# Altium footprint library Microchip Interface.PcbLib: 55 footprints (part 1 of 4)
Each footprint in its own frame and in the unit in brackets; x right, y up, seen from the top. Pads: shape width x height; smd on the part's side, far side on the other; paste and mask are expansions set on the pad; w line width, h text height; cw(c..) or ccw(c..) is an arc to the next point about the centre after c.
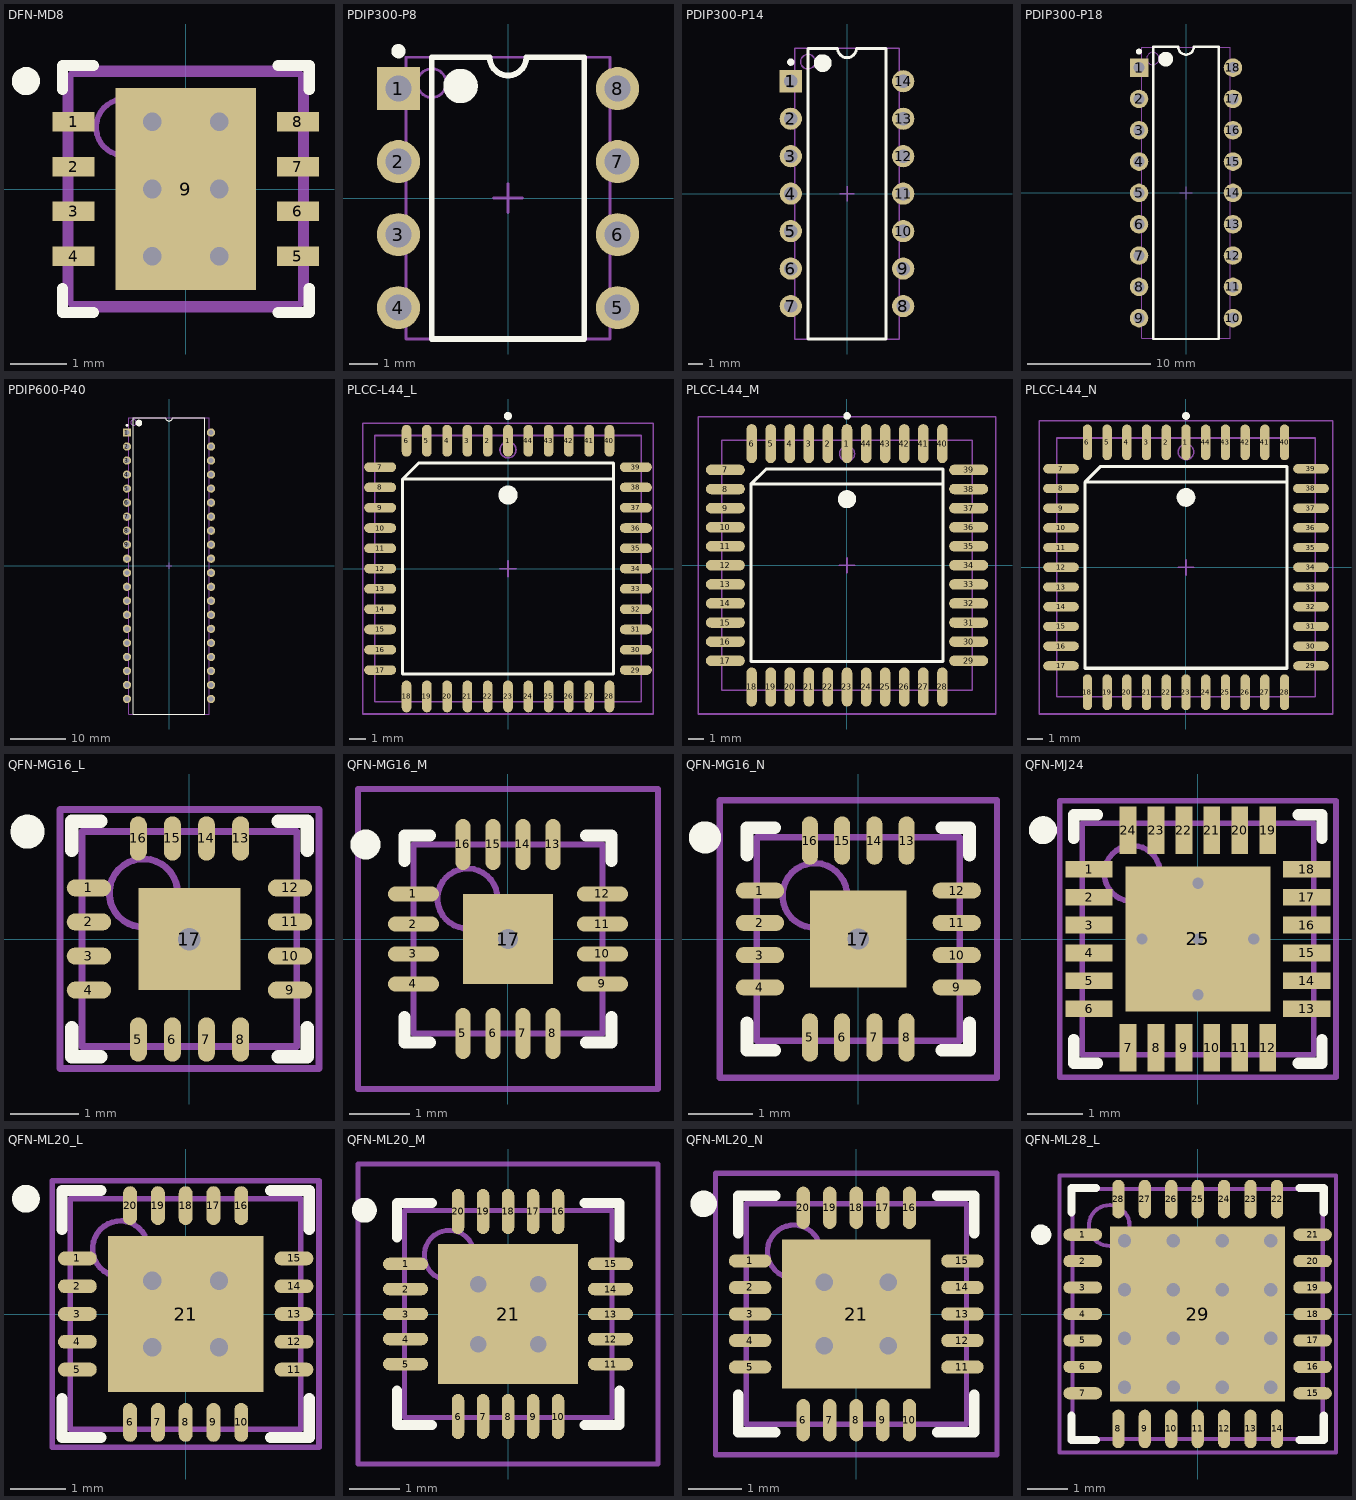
[diagram p0: the footprints below, top view; thin cyan lines are the x and y axes]

## DFN-MD8 [mm] "SON, 8-Leads, Body 4x4mm, Pitch 0.8mm, Microchip Recommended"
height 1
pads (9):
  rect 0.75x0.35 smd: 1(-2,1.2) 2(-2,0.4) 3(-2,-0.4) 4(-2,-1.2) 5(2,-1.2) 6(2,-0.4) 7(2,0.4) 8(2,1.2)
  rect 2.5x3.6 smd: 9(0,0)
via -0.6,1.2 diameter 0.66 hole 0.33
via 0.6,1.2 diameter 0.66 hole 0.33
via -0.6,0 diameter 0.66 hole 0.33
via 0.6,0 diameter 0.66 hole 0.33
via -0.6,-1.2 diameter 0.66 hole 0.33
via 0.6,-1.2 diameter 0.66 hole 0.33
Top Overlay:
  circle w0.25: c-2.85,1.925 r0.125
  lines w0.2: -2.2,-1.775 -2.2,-2.2 -1.65,-2.2 ; -2.2,1.775 -2.2,2.2 -1.65,2.2 ; 1.65,-2.2 2.2,-2.2 2.2,-1.775 ; 1.65,2.2 2.2,2.2 2.2,1.775
Mechanical 13:
  circle w0.1: c-1.1,1.1 r0.5
  lines w0.1: -2.05,-2.05 -2.05,2.05 2.05,2.05 2.05,-2.05 -2.05,-2.05
Mechanical 15:
  lines w0.1: -0.5,0 0.5,0 ; 0,-0.5 0,0.5 ; -2.15,-2.15 -2.15,2.15 2.15,2.15 2.15,-2.15 -2.15,-2.15
3D body: height 1, standoff 0, extent -2.05,-2.05 2.05,2.05

## PDIP300-P8 [mm] "DIP, 8-Leads, Row Spacing 7.62mm, Pitch 2.54mm, Body 9.5x6.6mm"
height 5.34
pads (8):
  rect 1.5x1.5 hole 0.9: 1(-3.81,3.81)
  round 1.5 hole 0.9: 2(-3.81,1.27) 3(-3.81,-1.27) 4(-3.81,-3.81) 5(3.81,-3.81) 6(3.81,-1.27) 7(3.81,1.27) 8(3.81,3.81)
Top Overlay:
  circle w0.25: c-3.81,5.11 r0.125
  circle w0.6: c-1.65,3.9 r0.3
  lines w0.2: -2.65,-4.9 -2.65,4.9 -0.635,4.9 ccw(c0,4.9) 0.635,4.9 2.65,4.9 2.65,-4.9 -2.65,-4.9
Mechanical 13:
  circle w0.1: c-2.65,4 r0.5
  lines w0.1: -3.55,-4.9 -3.55,4.9 3.55,4.9 3.55,-4.9 -3.55,-4.9
Mechanical 15:
  lines w0.1: -0.5,0 0.5,0 ; 0,-0.5 0,0.5
3D body: height 5.34, standoff 0, extent -3.55,-4.9 3.55,4.9

## PDIP300-P14 [mm] "DIP, 14-Leads, Row Spacing 7.62mm, Pitch 2.54mm, Body 19.2x6.6mm"
height 5.34
pads (14):
  rect 1.5x1.5 hole 0.9: 1(-3.81,7.62)
  round 1.5 hole 0.9: 2(-3.81,5.08) 3(-3.81,2.54) 4(-3.81,0) 5(-3.81,-2.54) 6(-3.81,-5.08) 7(-3.81,-7.62) 8(3.81,-7.62) 9(3.81,-5.08) 10(3.81,-2.54) 11(3.81,0) 12(3.81,2.54) 13(3.81,5.08) 14(3.81,7.62)
Top Overlay:
  circle w0.6: c-1.65,8.85 r0.3
  circle w0.25: c-3.81,8.92 r0.125
  lines w0.2: -2.65,-9.85 2.65,-9.85 2.65,9.85 0.635,9.85 cw(c0,9.85) -0.635,9.85 -2.65,9.85 -2.65,-9.85
Mechanical 13:
  circle w0.1: c-2.65,8.95 r0.5
  lines w0.1: -3.55,-9.85 3.55,-9.85 3.55,9.85 -3.55,9.85 -3.55,-9.85
Mechanical 15:
  lines w0.1: -0.5,0 0.5,0 ; 0,-0.5 0,0.5
3D body: height 5.34, standoff 0, extent -3.55,-9.85 3.55,9.85

## PDIP300-P18 [mm] "DIP, 18-Leads, Row Spacing 7.62mm, Pitch 2.54mm, Body 22.9x6.6mm"
height 5.34
pads (18):
  rect 1.5x1.5 hole 0.9: 1(-3.81,10.16)
  round 1.5 hole 0.9: 2(-3.81,7.62) 3(-3.81,5.08) 4(-3.81,2.54) 5(-3.81,0) 6(-3.81,-2.54) 7(-3.81,-5.08) 8(-3.81,-7.62) 9(-3.81,-10.16) 10(3.81,-10.16) 11(3.81,-7.62) 12(3.81,-5.08) 13(3.81,-2.54) 14(3.81,0) 15(3.81,2.54) 16(3.81,5.08) 17(3.81,7.62) 18(3.81,10.16)
Top Overlay:
  circle w0.25: c-3.81,11.46 r0.125
  circle w0.6: c-1.65,10.85 r0.3
  lines w0.2: -2.65,-11.85 -2.65,11.85 -0.635,11.85 ccw(c0,11.85) 0.635,11.85 2.65,11.85 2.65,-11.85 -2.65,-11.85
Mechanical 13:
  circle w0.1: c-2.7,10.9 r0.5
  lines w0.1: -3.6,-11.8 -3.6,11.8 3.6,11.8 3.6,-11.8 -3.6,-11.8
Mechanical 15:
  lines w0.1: -0.5,0 0.5,0 ; 0,-0.5 0,0.5
3D body: height 5.34, standoff 0, extent -3.6,-11.8 3.6,11.8

## PDIP600-P40 [mm] "DIP, 40-Leads, Row Spacing 15.24mm, Pitch 2.54mm, Body 51.8x13.5mm"
height 6.35
pads (40):
  rect 1.5x1.5 hole 0.9: 1(-7.62,24.13)
  round 1.5 hole 0.9: 2(-7.62,21.59) 3(-7.62,19.05) 4(-7.62,16.51) 5(-7.62,13.97) 6(-7.62,11.43) 7(-7.62,8.89) 8(-7.62,6.35) 9(-7.62,3.81) 10(-7.62,1.27) 11(-7.62,-1.27) 12(-7.62,-3.81) 13(-7.62,-6.35) 14(-7.62,-8.89) 15(-7.62,-11.43) 16(-7.62,-13.97) 17(-7.62,-16.51) 18(-7.62,-19.05) 19(-7.62,-21.59) 20(-7.62,-24.13) 21(7.62,-24.13) 22(7.62,-21.59) 23(7.62,-19.05) 24(7.62,-16.51) 25(7.62,-13.97) 26(7.62,-11.43) 27(7.62,-8.89) 28(7.62,-6.35) 29(7.62,-3.81) 30(7.62,-1.27) 31(7.62,1.27) 32(7.62,3.81) 33(7.62,6.35) 34(7.62,8.89) 35(7.62,11.43) 36(7.62,13.97) 37(7.62,16.51) 38(7.62,19.05) 39(7.62,21.59) 40(7.62,24.13)
Top Overlay:
  circle w0.25: c-7.62,25.43 r0.125
  circle w0.6: c-5.45,25.85 r0.3
  lines w0.2: -6.45,-26.85 -6.45,26.85 -0.635,26.85 ccw(c0,26.85) 0.635,26.85 6.45,26.85 6.45,-26.85 -6.45,-26.85
Mechanical 13:
  circle w0.1: c-6.4,25.95 r0.5
  lines w0.1: -7.3,-26.85 -7.3,26.85 7.3,26.85 7.3,-26.85 -7.3,-26.85
Mechanical 15:
  lines w0.1: -0.5,0 0.5,0 ; 0,-0.5 0,0.5
3D body: height 6.35, standoff 0, extent -7.3,-26.85 7.3,26.85

## PLCC-L44_L [mm] "Leaded Chip Carrier, 44-Leads, Body 16.6x16.6mm, Pitch 1.27mm, IPC High Density"
height 4.58
pads (44):
  oval 0.6x2 smd: 1(0,8) 2(-1.27,8) 3(-2.54,8) 4(-3.81,8) 5(-5.08,8) 6(-6.35,8) 18(-6.35,-8) 19(-5.08,-8) 20(-3.81,-8) 21(-2.54,-8) 22(-1.27,-8) 23(0,-8) 24(1.27,-8) 25(2.54,-8) 26(3.81,-8) 27(5.08,-8) 28(6.35,-8) 40(6.35,8) 41(5.08,8) 42(3.81,8) 43(2.54,8) 44(1.27,8)
  oval 2x0.6 smd: 7(-8,6.35) 8(-8,5.08) 9(-8,3.81) 10(-8,2.54) 11(-8,1.27) 12(-8,0) 13(-8,-1.27) 14(-8,-2.54) 15(-8,-3.81) 16(-8,-5.08) 17(-8,-6.35) 29(8,-6.35) 30(8,-5.08) 31(8,-3.81) 32(8,-2.54) 33(8,-1.27) 34(8,0) 35(8,1.27) 36(8,2.54) 37(8,3.81) 38(8,5.08) 39(8,6.35)
Top Overlay:
  circle w0.6: c0,4.6 r0.3
  circle w0.25: c0,9.55 r0.125
  lines w0.2: 6.6,5.6 -6.6,5.6 ; -6.6,5.6 -6.6,-6.6 6.6,-6.6 6.6,6.6 -5.6,6.6 -6.6,5.6
Mechanical 13:
  circle w0.1: c0,7.43 r0.5
  lines w0.1: -8.33,-8.33 8.33,-8.33 8.33,8.33 -8.33,8.33 -8.33,-8.33
Mechanical 15:
  lines w0.1: -0.5,0 0.5,0 ; 0,-0.5 0,0.5 ; -9.1,-9.1 9.1,-9.1 9.1,9.1 -9.1,9.1 -9.1,-9.1
3D body: height 4.58, standoff 0, extent -8.33,-8.33 8.33,8.33

## PLCC-L44_M [mm] "Leaded Chip Carrier, 44-Leads, Body 16.6x16.6mm, Pitch 1.27mm, IPC Low Density"
height 4.58
pads (44):
  oval 0.7x2.6 smd: 1(0,8.1) 2(-1.27,8.1) 3(-2.54,8.1) 4(-3.81,8.1) 5(-5.08,8.1) 6(-6.35,8.1) 18(-6.35,-8.1) 19(-5.08,-8.1) 20(-3.81,-8.1) 21(-2.54,-8.1) 22(-1.27,-8.1) 23(0,-8.1) 24(1.27,-8.1) 25(2.54,-8.1) 26(3.81,-8.1) 27(5.08,-8.1) 28(6.35,-8.1) 40(6.35,8.1) 41(5.08,8.1) 42(3.81,8.1) 43(2.54,8.1) 44(1.27,8.1)
  oval 2.6x0.7 smd: 7(-8.1,6.35) 8(-8.1,5.08) 9(-8.1,3.81) 10(-8.1,2.54) 11(-8.1,1.27) 12(-8.1,0) 13(-8.1,-1.27) 14(-8.1,-2.54) 15(-8.1,-3.81) 16(-8.1,-5.08) 17(-8.1,-6.35) 29(8.1,-6.35) 30(8.1,-5.08) 31(8.1,-3.81) 32(8.1,-2.54) 33(8.1,-1.27) 34(8.1,0) 35(8.1,1.27) 36(8.1,2.54) 37(8.1,3.81) 38(8.1,5.08) 39(8.1,6.35)
Top Overlay:
  circle w0.6: c0,4.4 r0.3
  circle w0.25: c0,9.95 r0.125
  lines w0.2: 6.4,5.4 -6.4,5.4 ; -6.4,5.4 -6.4,-6.4 6.4,-6.4 6.4,6.4 -5.4,6.4 -6.4,5.4
Mechanical 13:
  circle w0.1: c0,7.43 r0.5
  lines w0.1: -8.33,-8.33 8.33,-8.33 8.33,8.33 -8.33,8.33 -8.33,-8.33
Mechanical 15:
  lines w0.1: -0.5,0 0.5,0 ; 0,-0.5 0,0.5 ; -9.9,-9.9 9.9,-9.9 9.9,9.9 -9.9,9.9 -9.9,-9.9
3D body: height 4.58, standoff 0, extent -8.33,-8.33 8.33,8.33

## PLCC-L44_N [mm] "Leaded Chip Carrier, 44-Leads, Body 16.6x16.6mm, Pitch 1.27mm, IPC Medium Density"
height 4.58
pads (44):
  oval 0.6x2.3 smd: 1(0,8.05) 2(-1.27,8.05) 3(-2.54,8.05) 4(-3.81,8.05) 5(-5.08,8.05) 6(-6.35,8.05) 18(-6.35,-8.05) 19(-5.08,-8.05) 20(-3.81,-8.05) 21(-2.54,-8.05) 22(-1.27,-8.05) 23(0,-8.05) 24(1.27,-8.05) 25(2.54,-8.05) 26(3.81,-8.05) 27(5.08,-8.05) 28(6.35,-8.05) 40(6.35,8.05) 41(5.08,8.05) 42(3.81,8.05) 43(2.54,8.05) 44(1.27,8.05)
  oval 2.3x0.6 smd: 7(-8.05,6.35) 8(-8.05,5.08) 9(-8.05,3.81) 10(-8.05,2.54) 11(-8.05,1.27) 12(-8.05,0) 13(-8.05,-1.27) 14(-8.05,-2.54) 15(-8.05,-3.81) 16(-8.05,-5.08) 17(-8.05,-6.35) 29(8.05,-6.35) 30(8.05,-5.08) 31(8.05,-3.81) 32(8.05,-2.54) 33(8.05,-1.27) 34(8.05,0) 35(8.05,1.27) 36(8.05,2.54) 37(8.05,3.81) 38(8.05,5.08) 39(8.05,6.35)
Top Overlay:
  circle w0.6: c0,4.5 r0.3
  circle w0.25: c0,9.75 r0.125
  lines w0.2: 6.5,5.5 -6.5,5.5 ; -6.5,5.5 -6.5,-6.5 6.5,-6.5 6.5,6.5 -5.5,6.5 -6.5,5.5
Mechanical 13:
  circle w0.1: c0,7.43 r0.5
  lines w0.1: -8.33,-8.33 8.33,-8.33 8.33,8.33 -8.33,8.33 -8.33,-8.33
Mechanical 15:
  lines w0.1: -0.5,0 0.5,0 ; 0,-0.5 0,0.5 ; -9.45,-9.45 9.45,-9.45 9.45,9.45 -9.45,9.45 -9.45,-9.45
3D body: height 4.58, standoff 0, extent -8.33,-8.33 8.33,8.33

## QFN-MG16_L [mm] "QFN, 16-Leads, Body 3x3mm, Pitch 0.5mm, IPC High Density"
height 1
pads (17):
  oval 0.65x0.25 smd: 1(-1.475,0.75) 2(-1.475,0.25) 3(-1.475,-0.25) 4(-1.475,-0.75) 9(1.475,-0.75) 10(1.475,-0.25) 11(1.475,0.25) 12(1.475,0.75)
  oval 0.25x0.65 smd: 5(-0.75,-1.475) 6(-0.25,-1.475) 7(0.25,-1.475) 8(0.75,-1.475) 13(0.75,1.475) 14(0.25,1.475) 15(-0.25,1.475) 16(-0.75,1.475)
  rect 1.5x1.5 smd: 17(0,0)
via 0,0 diameter 0.66 hole 0.33
Top Overlay:
  circle w0.25: c-2.375,1.575 r0.125
  lines w0.2: -1.725,-1.3 -1.725,-1.725 -1.3,-1.725 ; -1.725,1.3 -1.725,1.725 -1.3,1.725 ; 1.3,-1.725 1.725,-1.725 1.725,-1.3 ; 1.3,1.725 1.725,1.725 1.725,1.3
Mechanical 13:
  circle w0.1: c-0.675,0.675 r0.5
  lines w0.1: -1.575,-1.575 -1.575,1.575 1.575,1.575 1.575,-1.575 -1.575,-1.575
Mechanical 15:
  lines w0.1: -0.5,0 0.5,0 ; 0,-0.5 0,0.5 ; -1.9,-1.9 -1.9,1.9 1.9,1.9 1.9,-1.9 -1.9,-1.9
3D body: height 1, standoff 0, extent -1.575,-1.575 1.575,1.575

## QFN-MG16_M [mm] "QFN, 16-Leads, Body 3x3mm, Pitch 0.5mm, IPC Low Density"
height 1
pads (17):
  oval 0.85x0.25 smd: 1(-1.575,0.75) 2(-1.575,0.25) 3(-1.575,-0.25) 4(-1.575,-0.75) 9(1.575,-0.75) 10(1.575,-0.25) 11(1.575,0.25) 12(1.575,0.75)
  oval 0.25x0.85 smd: 5(-0.75,-1.575) 6(-0.25,-1.575) 7(0.25,-1.575) 8(0.75,-1.575) 13(0.75,1.575) 14(0.25,1.575) 15(-0.25,1.575) 16(-0.75,1.575)
  rect 1.5x1.5 smd: 17(0,0)
via 0,0 diameter 0.66 hole 0.33
Top Overlay:
  circle w0.25: c-2.375,1.575 r0.125
  lines w0.2: -1.725,-1.3 -1.725,-1.725 -1.3,-1.725 ; -1.725,1.3 -1.725,1.725 -1.3,1.725 ; 1.3,-1.725 1.725,-1.725 1.725,-1.3 ; 1.3,1.725 1.725,1.725 1.725,1.3
Mechanical 13:
  circle w0.1: c-0.675,0.675 r0.5
  lines w0.1: -1.575,-1.575 -1.575,1.575 1.575,1.575 1.575,-1.575 -1.575,-1.575
Mechanical 15:
  lines w0.1: -0.5,0 0.5,0 ; 0,-0.5 0,0.5 ; -2.5,-2.5 -2.5,2.5 2.5,2.5 2.5,-2.5 -2.5,-2.5
3D body: height 1, standoff 0, extent -1.575,-1.575 1.575,1.575

## QFN-MG16_N [mm] "QFN, 16-Leads, Body 3x3mm, Pitch 0.5mm, IPC Medium Density"
height 1
pads (17):
  oval 0.75x0.25 smd: 1(-1.525,0.75) 2(-1.525,0.25) 3(-1.525,-0.25) 4(-1.525,-0.75) 9(1.525,-0.75) 10(1.525,-0.25) 11(1.525,0.25) 12(1.525,0.75)
  oval 0.25x0.75 smd: 5(-0.75,-1.525) 6(-0.25,-1.525) 7(0.25,-1.525) 8(0.75,-1.525) 13(0.75,1.525) 14(0.25,1.525) 15(-0.25,1.525) 16(-0.75,1.525)
  rect 1.5x1.5 smd: 17(0,0)
via 0,0 diameter 0.66 hole 0.33
Top Overlay:
  circle w0.25: c-2.375,1.575 r0.125
  lines w0.2: -1.725,-1.3 -1.725,-1.725 -1.3,-1.725 ; -1.725,1.3 -1.725,1.725 -1.3,1.725 ; 1.3,-1.725 1.725,-1.725 1.725,-1.3 ; 1.3,1.725 1.725,1.725 1.725,1.3
Mechanical 13:
  circle w0.1: c-0.675,0.675 r0.5
  lines w0.1: -1.575,-1.575 -1.575,1.575 1.575,1.575 1.575,-1.575 -1.575,-1.575
Mechanical 15:
  lines w0.1: -0.5,0 0.5,0 ; 0,-0.5 0,0.5 ; -2.15,-2.15 -2.15,2.15 2.15,2.15 2.15,-2.15 -2.15,-2.15
3D body: height 1, standoff 0, extent -1.575,-1.575 1.575,1.575

## QFN-MJ24 [mm] "QFN, 24-Leads, Body 4x4mm, Pitch 0.5mm, Microchip Recommended"
height 0.9
pads (25):
  rect 0.85x0.3 smd: 1(-1.95,1.25) 2(-1.95,0.75) 3(-1.95,0.25) 4(-1.95,-0.25) 5(-1.95,-0.75) 6(-1.95,-1.25) 13(1.95,-1.25) 14(1.95,-0.75) 15(1.95,-0.25) 16(1.95,0.25) 17(1.95,0.75) 18(1.95,1.25)
  rect 0.3x0.85 smd: 7(-1.25,-1.95) 8(-0.75,-1.95) 9(-0.25,-1.95) 10(0.25,-1.95) 11(0.75,-1.95) 12(1.25,-1.95) 19(1.25,1.95) 20(0.75,1.95) 21(0.25,1.95) 22(-0.25,1.95) 23(-0.75,1.95) 24(-1.25,1.95)
  rect 2.6x2.6 smd paste-1.3: 25(0,0)
via 0,-1 diameter 0.5 hole 0.2
via 0,1 diameter 0.5 hole 0.2
via -1,0 diameter 0.5 hole 0.2
via 1,0 diameter 0.5 hole 0.2
via 0,0 diameter 0.5 hole 0.2
Top Overlay:
  circle w0.25: c-2.775,1.95 r0.125
  lines w0.2: -2.225,-1.8 -2.225,-2.225 -1.8,-2.225 ; -2.225,1.8 -2.225,2.225 -1.8,2.225 ; 1.8,-2.225 2.225,-2.225 2.225,-1.8 ; 1.8,2.225 2.225,2.225 2.225,1.8
Top Paste:
  rectangle: 0.1,0.1 1.2,1.2
  region: -0.1,1.2 -1.2,1.2 -1.2,0.1 -0.1,0.1
  region: -0.1,-0.1 -1.2,-0.1 -1.2,-1.2 -0.1,-1.2
  rectangle: 0.1,-1.2 1.2,-0.1
Mechanical 13:
  circle w0.1: c-1.175,1.175 r0.5
  lines w0.1: -2.075,-2.075 2.075,-2.075 2.075,2.075 -2.075,2.075 -2.075,-2.075
Mechanical 15:
  lines w0.1: -0.5,0 0.5,0 ; 0,-0.5 0,0.5 ; -2.475,-2.475 -2.475,2.475 2.475,2.475 2.475,-2.475 -2.475,-2.475
3D body: height 0.9, standoff 0, extent -2.074,-2.074 2.074,2.074

## QFN-ML20_L [mm] "QFN, 20-Leads, Body 4x4mm, Pitch 0.5mm, IPC High Density"
height 1
pads (21):
  oval 0.7x0.25 smd: 1(-1.95,1) 2(-1.95,0.5) 3(-1.95,0) 4(-1.95,-0.5) 5(-1.95,-1) 11(1.95,-1) 12(1.95,-0.5) 13(1.95,0) 14(1.95,0.5) 15(1.95,1)
  oval 0.25x0.7 smd: 6(-1,-1.95) 7(-0.5,-1.95) 8(0,-1.95) 9(0.5,-1.95) 10(1,-1.95) 16(1,1.95) 17(0.5,1.95) 18(0,1.95) 19(-0.5,1.95) 20(-1,1.95)
  rect 2.8x2.8 smd: 21(0,0)
via -0.6,0.6 diameter 0.66 hole 0.33
via 0.6,0.6 diameter 0.66 hole 0.33
via -0.6,-0.6 diameter 0.66 hole 0.33
via 0.6,-0.6 diameter 0.66 hole 0.33
Top Overlay:
  circle w0.25: c-2.875,2.075 r0.125
  lines w0.2: -2.225,-1.525 -2.225,-2.225 -1.525,-2.225 ; -2.225,1.525 -2.225,2.225 -1.525,2.225 ; 1.525,-2.225 2.225,-2.225 2.225,-1.525 ; 1.525,2.225 2.225,2.225 2.225,1.525
Mechanical 13:
  circle w0.1: c-1.175,1.175 r0.5
  lines w0.1: -2.075,-2.075 -2.075,2.075 2.075,2.075 2.075,-2.075 -2.075,-2.075
Mechanical 15:
  lines w0.1: -0.5,0 0.5,0 ; 0,-0.5 0,0.5 ; -2.4,-2.4 -2.4,2.4 2.4,2.4 2.4,-2.4 -2.4,-2.4
3D body: height 1, standoff 0, extent -2.075,-2.075 2.075,2.075

## QFN-ML20_M [mm] "QFN, 20-Leads, Body 4x4mm, Pitch 0.5mm, IPC Low Density"
height 1
pads (21):
  oval 0.9x0.25 smd: 1(-2.05,1) 2(-2.05,0.5) 3(-2.05,0) 4(-2.05,-0.5) 5(-2.05,-1) 11(2.05,-1) 12(2.05,-0.5) 13(2.05,0) 14(2.05,0.5) 15(2.05,1)
  oval 0.25x0.9 smd: 6(-1,-2.05) 7(-0.5,-2.05) 8(0,-2.05) 9(0.5,-2.05) 10(1,-2.05) 16(1,2.05) 17(0.5,2.05) 18(0,2.05) 19(-0.5,2.05) 20(-1,2.05)
  rect 2.8x2.8 smd: 21(0,0)
via 0.6,-0.6 diameter 0.66 hole 0.33
via -0.6,-0.6 diameter 0.66 hole 0.33
via 0.6,0.6 diameter 0.66 hole 0.33
via -0.6,0.6 diameter 0.66 hole 0.33
Top Overlay:
  circle w0.25: c-2.875,2.075 r0.125
  lines w0.2: -2.225,-1.525 -2.225,-2.225 -1.525,-2.225 ; -2.225,1.525 -2.225,2.225 -1.525,2.225 ; 1.525,-2.225 2.225,-2.225 2.225,-1.525 ; 1.525,2.225 2.225,2.225 2.225,1.525
Mechanical 13:
  circle w0.1: c-1.175,1.175 r0.5
  lines w0.1: -2.075,-2.075 2.075,-2.075 2.075,2.075 -2.075,2.075 -2.075,-2.075
Mechanical 15:
  lines w0.1: -0.5,0 0.5,0 ; 0,-0.5 0,0.5 ; -3,-3 3,-3 3,3 -3,3 -3,-3
3D body: height 1, standoff 0, extent -2.075,-2.075 2.075,2.075

## QFN-ML20_N [mm] "QFN, 20-Leads, Body 4x4mm, Pitch 0.5mm, IPC Medium Density"
height 1
pads (21):
  oval 0.8x0.25 smd: 1(-2,1) 2(-2,0.5) 3(-2,0) 4(-2,-0.5) 5(-2,-1) 11(2,-1) 12(2,-0.5) 13(2,0) 14(2,0.5) 15(2,1)
  oval 0.25x0.8 smd: 6(-1,-2) 7(-0.5,-2) 8(0,-2) 9(0.5,-2) 10(1,-2) 16(1,2) 17(0.5,2) 18(0,2) 19(-0.5,2) 20(-1,2)
  rect 2.8x2.8 smd: 21(0,0)
via -0.6,0.6 diameter 0.66 hole 0.33
via 0.6,0.6 diameter 0.66 hole 0.33
via -0.6,-0.6 diameter 0.66 hole 0.33
via 0.6,-0.6 diameter 0.66 hole 0.33
Top Overlay:
  circle w0.25: c-2.875,2.075 r0.125
  lines w0.2: -2.225,-1.525 -2.225,-2.225 -1.525,-2.225 ; -2.225,1.525 -2.225,2.225 -1.525,2.225 ; 1.525,-2.225 2.225,-2.225 2.225,-1.525 ; 1.525,2.225 2.225,2.225 2.225,1.525
Mechanical 13:
  circle w0.1: c-1.175,1.175 r0.5
  lines w0.1: -2.075,-2.075 -2.075,2.075 2.075,2.075 2.075,-2.075 -2.075,-2.075
Mechanical 15:
  lines w0.1: -0.5,0 0.5,0 ; 0,-0.5 0,0.5 ; -2.65,-2.65 -2.65,2.65 2.65,2.65 2.65,-2.65 -2.65,-2.65
3D body: height 1, standoff 0, extent -2.075,-2.075 2.075,2.075

## QFN-ML28_L [mm] "QFN, 28-Leads, Body 6x6 mm, Pitch 0.65mm, IPC High Density"
height 1
pads (29):
  oval 0.95x0.3 smd: 1(-2.825,1.95) 2(-2.825,1.3) 3(-2.825,0.65) 4(-2.825,0) 5(-2.825,-0.65) 6(-2.825,-1.3) 7(-2.825,-1.95) 15(2.825,-1.95) 16(2.825,-1.3) 17(2.825,-0.65) 18(2.825,0) 19(2.825,0.65) 20(2.825,1.3) 21(2.825,1.95)
  oval 0.3x0.95 smd: 8(-1.95,-2.825) 9(-1.3,-2.825) 10(-0.65,-2.825) 11(0,-2.825) 12(0.65,-2.825) 13(1.3,-2.825) 14(1.95,-2.825) 22(1.95,2.825) 23(1.3,2.825) 24(0.65,2.825) 25(0,2.825) 26(-0.65,2.825) 27(-1.3,2.825) 28(-1.95,2.825)
  rect 4.3x4.3 smd: 29(0,0)
via 1.8,-1.8 diameter 0.66 hole 0.33
via 0.6,-1.8 diameter 0.66 hole 0.33
via -0.6,-1.8 diameter 0.66 hole 0.33
via -1.8,-1.8 diameter 0.66 hole 0.33
via 1.8,-0.6 diameter 0.66 hole 0.33
via 0.6,-0.6 diameter 0.66 hole 0.33
via -0.6,-0.6 diameter 0.66 hole 0.33
via -1.8,-0.6 diameter 0.66 hole 0.33
via 1.8,0.6 diameter 0.66 hole 0.33
via 0.6,0.6 diameter 0.66 hole 0.33
via -0.6,0.6 diameter 0.66 hole 0.33
via -1.8,0.6 diameter 0.66 hole 0.33
via 1.8,1.8 diameter 0.66 hole 0.33
via 0.6,1.8 diameter 0.66 hole 0.33
via -0.6,1.8 diameter 0.66 hole 0.33
via -1.8,1.8 diameter 0.66 hole 0.33
Top Overlay:
  circle w0.25: c-3.85,1.95 r0.125
  lines w0.2: -3.1,-2.5 -3.1,-3.1 -2.5,-3.1 ; -3.1,2.5 -3.1,3.1 -2.5,3.1 ; 2.5,-3.1 3.1,-3.1 3.1,-2.5 ; 2.5,3.1 3.1,3.1 3.1,2.5
Mechanical 13:
  circle w0.1: c-2.175,2.175 r0.5
  lines w0.1: -3.075,-3.075 3.075,-3.075 3.075,3.075 -3.075,3.075 -3.075,-3.075
Mechanical 15:
  lines w0.1: -0.5,0 0.5,0 ; 0,-0.5 0,0.5 ; -3.4,-3.4 3.4,-3.4 3.4,3.4 -3.4,3.4 -3.4,-3.4
3D body: height 1, standoff 0, extent -3.075,-3.075 3.075,3.075